# EAGLE library part BAT54JW (library haptic-inu)
Dual Schottky Diode 30V Diodes Inc
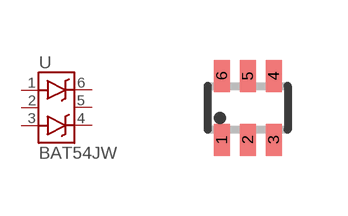
[diagram p8: symbol with the pads of SOT-363; footprint SOT-363]

Designator prefix -

## BAT54JWSOT-363  [SOT-363]
1  A1  pas
2  NC1  pas
3  A2  pas
4  C2  pas
5  NC2  pas
6  C1  pas

## Footprint SOT-363 (pad centres in mm)
Small Outline Transistor; 6 leads Philips Semiconductors, SOT363.pdf
smd 0.4 x 0.8: 1 -0.65,-0.8; 2 0,-0.8; 3 0.65,-0.8; 4 0.65,0.8; 5 0,0.8; 6 -0.65,0.8